# Altium schematic symbol library 2312-MS-0805.SchLib: 1 symbol
Pins are listed as number, name and electrical type; pins without a type are passive.

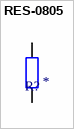
[diagram p0: symbol RES-0805]

## RES-0805
designator R?
Resistance: *
footprint 2312-RES-0805
pins: 1, 2